# EAGLE library part XCF02S (library cpcfpga)
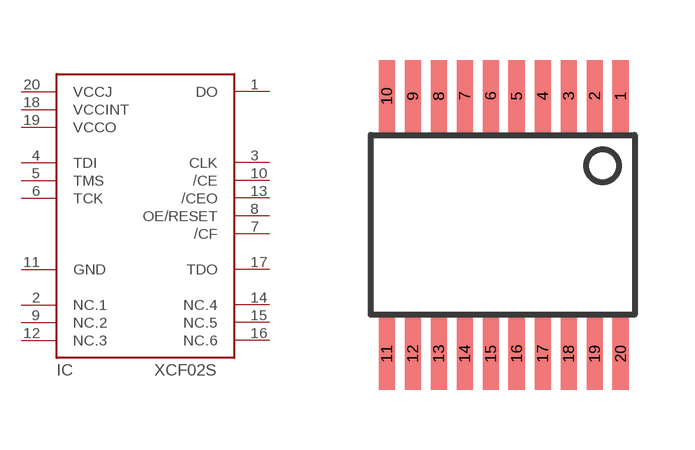
[diagram p0: symbol with the pads of VO20; footprint VO20]

Designator prefix IC

## XCF02S  [VO20]
1  DO
2  NC.1
3  CLK
4  TDI
5  TMS
6  TCK
7  /CF
8  OE/RESET
9  NC.2
10  /CE
11  GND
12  NC.3
13  /CEO
14  NC.4
15  NC.5
16  NC.6
17  TDO
18  VCCINT
19  VCCO
20  VCCJ

## Footprint VO20 (pad centres in mm)
smd 0.4 x 1.8: 1 5.85,6.15; 2 5.2,6.15; 3 4.55,6.15; 4 3.9,6.15; 5 3.25,6.15; 6 2.6,6.15; 7 1.95,6.15; 8 1.3,6.15; 9 0.65,6.15; 10 0,6.15; 11 0,-0.3; 12 0.65,-0.3; 13 1.3,-0.3; 14 1.95,-0.3; 15 2.6,-0.3; 16 3.25,-0.3; 17 3.9,-0.3; 18 4.55,-0.3; 19 5.2,-0.3; 20 5.85,-0.3